# EAGLE library part 2478 (library alarm_clock)
Adafruit 2.4" TFT LCD with Touchscreen Breakout w/MicroSD Socket Check availability <https://pricing.snapeda.com/parts/2478/Adafruit%20Industries/view-part?ref=eda>
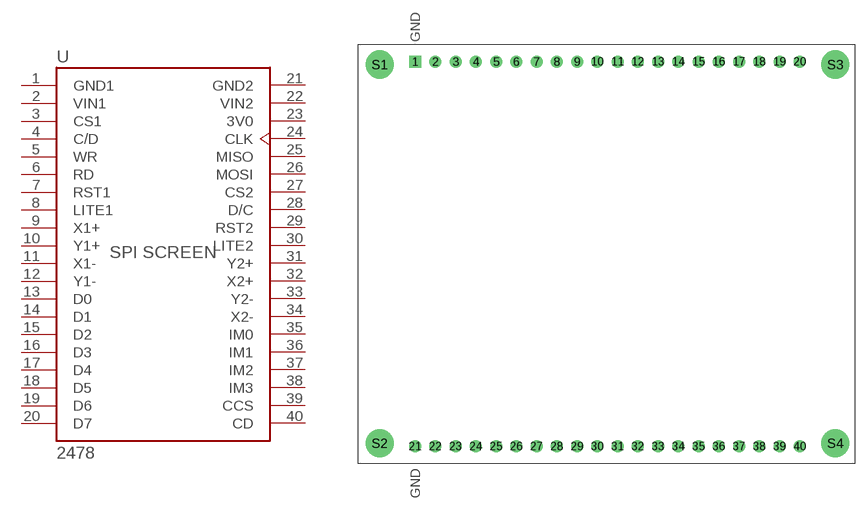
[diagram p3: symbol with the pads of ADAFRUIT_2478; footprint ADAFRUIT_2478]

Designator prefix U

## 2478 (AVAILABILITY: In Stock; CHECK_PRICES: https://www.snapeda.com/parts/2478/Adafruit+Industries+LLC/view-part/?ref=eda; DESCRIPTION: Adafruit 2.4 TFT LCD with Touchscreen Breakout w/MicroSD Socket - ILI9341 | Adafruit Industries 2478; MF: Adafruit Industries; MP: 2478; PACKAGE: NON STANDARD Adafruit; PRICE: None; SNAPEDA_LINK: https://www.snapeda.com/parts/2478/Adafruit+Industries+LLC/view-part/?ref=snap)  [ADAFRUIT_2478]
1  GND1  pwr
2  VIN1  pwr
3  CS1  in
4  C/D  in
5  WR  in
6  RD  in
7  RST1  in
8  LITE1  in
9  X1+  out
10  Y1+  out
11  X1-  out
12  Y1-  out
13  D0
14  D1
15  D2
16  D3
17  D4
18  D5
19  D6
20  D7
21  GND2  pwr
22  VIN2  pwr
23  3V0  out
24  CLK  in
25  MISO  out
26  MOSI  in
27  CS2  in
28  D/C  in
29  RST2  in
30  LITE2  in
31  Y2+  out
32  X2+  out
33  Y2-  out
34  X2-  out
35  IM0  in
36  IM1  in
37  IM2  in
38  IM3  in
39  CCS  in
40  CD  out

## Footprint ADAFRUIT_2478 (pad centres in mm)
drill 1.02 square: 1 -24.13,24.13
drill 1.02: 2 -21.59,24.13; 3 -19.05,24.13; 4 -16.51,24.13; 5 -13.97,24.13; 6 -11.43,24.13; 7 -8.89,24.13; 8 -6.35,24.13; 9 -3.81,24.13; 10 -1.27,24.13; 11 1.27,24.13; 12 3.81,24.13; 13 6.35,24.13; 14 8.89,24.13; 15 11.43,24.13; 16 13.97,24.13; 17 16.51,24.13; 18 19.05,24.13; 19 21.59,24.13; 20 24.13,24.13; 21 -24.13,-24.13; 22 -21.59,-24.13; 23 -19.05,-24.13; 24 -16.51,-24.13; 25 -13.97,-24.13; 26 -11.43,-24.13; 27 -8.89,-24.13; 28 -6.35,-24.13; 29 -3.81,-24.13; 30 -1.27,-24.13; 31 1.27,-24.13; 32 3.81,-24.13; 33 6.35,-24.13; 34 8.89,-24.13; 35 11.43,-24.13; 36 13.97,-24.13; 37 16.51,-24.13; 38 19.05,-24.13; 39 21.59,-24.13; 40 24.13,-24.13
drill 2.54: S1 -28.575,23.749; S2 -28.575,-23.749; S3 28.575,23.749; S4 28.575,-23.749